# EAGLE library part MA04-2 (library con-lstb)
PIN HEADER
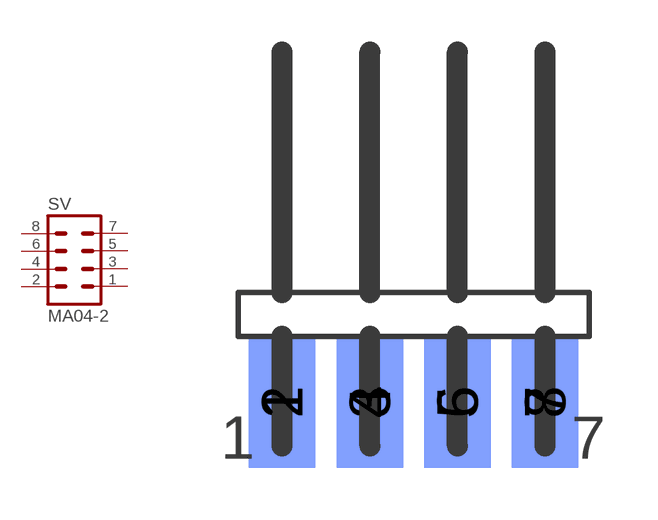
[diagram p0: symbol with the pads of MA04-2; footprint MA04-2]

Designator prefix SV

## MA04-2  [MA04-2]
1  1  pas
2  2  pas
3  3  pas
4  4  pas
5  5  pas
6  6  pas
7  7  pas
8  8  pas

## Footprint MA04-2 (pad centres in mm)
PIN HEADER
smd 1.93 x 3.81: 1 -3.81,-2.54; 3 -1.27,-2.54; 5 1.27,-2.54; 7 3.81,-2.54
smd 1.93 x 3.81 bottom: 2 -3.81,-2.54; 4 -1.27,-2.54; 6 1.27,-2.54; 8 3.81,-2.54